# EAGLE library part MICROCLASP_40POS (library Victor)
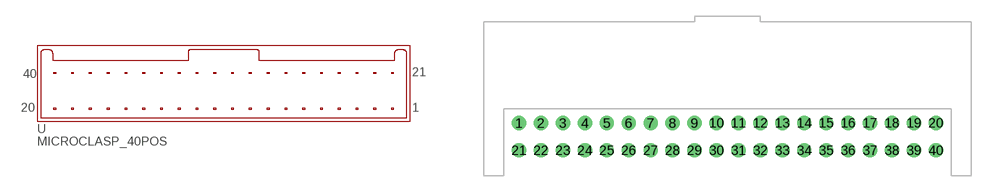
[diagram p6: symbol with the pads of MICROCLASP_40POS; footprint MICROCLASP_40POS]

Designator prefix -

## MICROCLASP_40POS  [MICROCLASP_40POS]
1  1
2  2
3  3
4  4
5  5
6  6
7  7
8  8
9  9
10  10
11  11
12  12
13  13
14  14
15  15
16  16
17  17
18  18
19  19
20  20
21  21
22  22
23  23
24  24
25  25
26  26
27  27
28  28
29  29
30  30
31  31
32  32
33  33
34  34
35  35
36  36
37  37
38  38
39  39
40  40

## Footprint MICROCLASP_40POS (pad centres in mm)
drill 0.8 round: 1 -19,-2; 2 -17,-2; 3 -15,-2; 4 -13,-2; 5 -11,-2; 6 -9,-2; 7 -7,-2; 8 -5,-2; 9 -3,-2; 10 -1,-2; 11 1,-2; 12 3,-2; 13 5,-2; 14 7,-2; 15 9,-2; 16 11,-2; 17 13,-2; 18 15,-2; 19 17,-2; 20 19,-2; 21 -19,-4.5; 22 -17,-4.5; 23 -15,-4.5; 24 -13,-4.5; 25 -11,-4.5; 26 -9,-4.5; 27 -7,-4.5; 28 -5,-4.5; 29 -3,-4.5; 30 -1,-4.5; 31 1,-4.5; 32 3,-4.5; 33 5,-4.5; 34 7,-4.5; 35 9,-4.5; 36 11,-4.5; 37 13,-4.5; 38 15,-4.5; 39 17,-4.5; 40 19,-4.5